# Altium footprint library PcbLib.PcbLib: 38 footprints (part 1 of 3)
Each footprint in its own frame and in the unit in brackets; x right, y up, seen from the top. Pads: shape width x height; smd on the part's side, far side on the other; paste and mask are expansions set on the pad; w line width, h text height; cw(c..) or ccw(c..) is an arc to the next point about the centre after c.
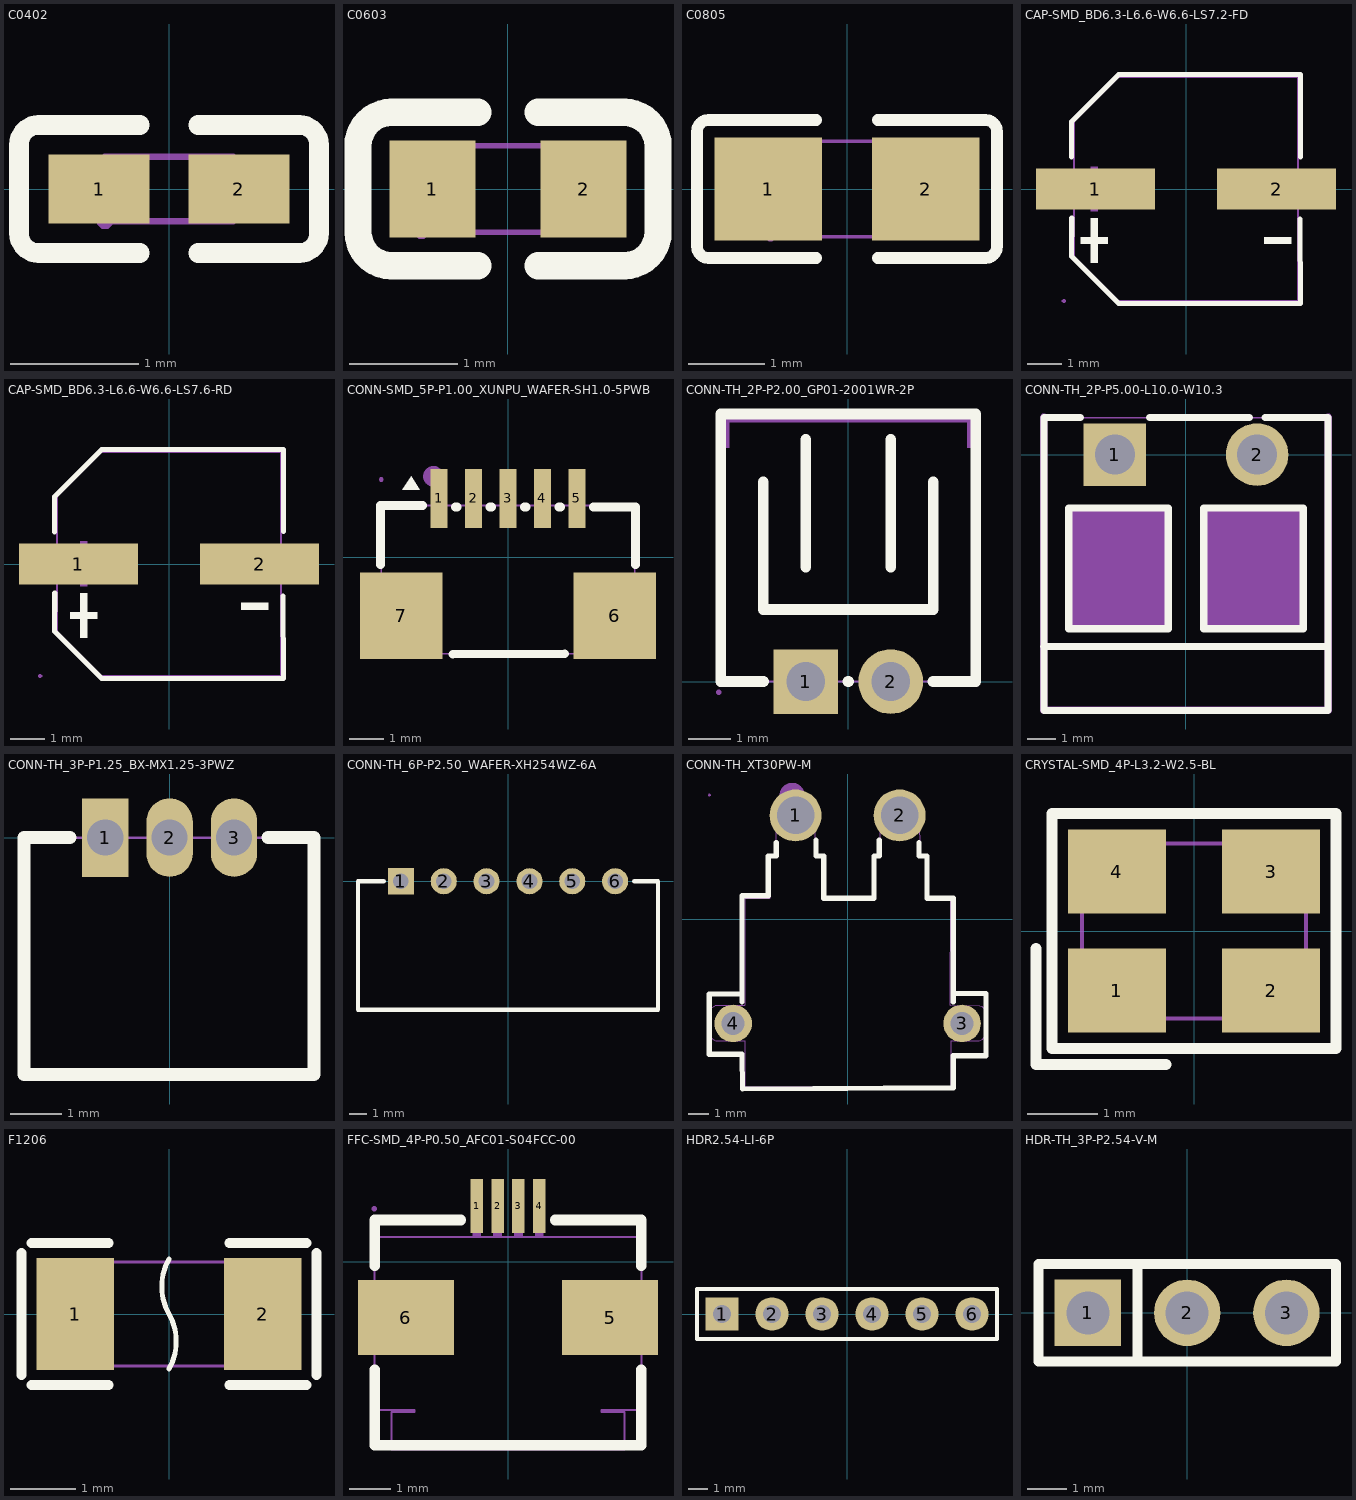
[diagram p0: the footprints below, top view; thin cyan lines are the x and y axes]

## C0402 [mm]
pads (2):
  rect 0.79x0.54 smd paste-100 mask+0.051: 1(-0.545,0) 2(0.545,0)
Top Overlay:
  lines w0.152: -0.226,-0.499 -1.016,-0.499 cw(c-1.016,-0.346) -1.169,-0.346 -1.169,0.346 cw(c-1.016,0.346) -1.016,0.499 -0.226,0.499 ; 0.226,-0.499 1.016,-0.499 ccw(c1.016,-0.346) 1.169,-0.346 1.169,0.346 ccw(c1.016,0.346) 1.016,0.499 0.226,0.499
Top Paste:
  region: -0.18,0.225 -0.18,-0.225 -0.25,-0.275 -0.73,-0.275 -0.78,-0.225 -0.78,0.225 -0.73,0.275 -0.25,0.275
  region: 0.78,0.225 0.78,-0.225 0.73,-0.275 0.25,-0.275 0.18,-0.225 0.18,0.225 0.25,0.275 0.73,0.275
Mechanical 15:
  region: -0.44,-0.25 -0.44,-0.225 -0.475,-0.19 -0.525,-0.19 -0.56,-0.225 -0.56,-0.25 -0.56,-0.275 -0.525,-0.31 -0.475,-0.31 -0.44,-0.275 -0.44,-0.25
  region: -0.5,-0.25 -0.5,0.25 -0.25,0.25 -0.25,-0.25
  region: 0.5,-0.25 0.5,0.25 0.25,0.25 0.25,-0.25
  lines w0.051: -0.5,-0.25 -0.5,0.25 0.5,0.25 0.5,-0.25 -0.5,-0.25

## C0603 [mm]
pads (2):
  rect 0.8x0.9 smd: 1(-0.7,0) 2(0.7,0)
Top Overlay:
  lines w0.254: -1.08,-0.71 -0.28,-0.71 ; -1.08,0.71 -0.28,0.71 ; -1.08,-0.71 cw(c-1.08,-0.4) -1.39,-0.4 -1.39,0.4 cw(c-1.08,0.4) -1.08,0.71 ; 0.28,-0.71 1.08,-0.71 ccw(c1.08,-0.4) 1.39,-0.4 1.39,0.4 ccw(c1.08,0.4) 1.08,0.71 0.28,0.71
Mechanical 15:
  region: 0.8,-0.4 0.8,0.4 0.5,0.4 0.5,-0.4
  region: -0.8,-0.4 -0.8,0.4 -0.5,0.4 -0.5,-0.4
  region: -0.74,-0.4 -0.74,-0.375 -0.775,-0.34 -0.825,-0.34 -0.86,-0.375 -0.86,-0.4 -0.86,-0.425 -0.825,-0.46 -0.775,-0.46 -0.74,-0.425 -0.74,-0.4
  lines w0.051: -0.8,-0.4 0.8,-0.4 0.8,0.4 -0.8,0.4 -0.8,-0.4

## C0805 [mm]
pads (2):
  rect 1.41x1.35 smd paste-100 mask+0.051: 1(-1.03,0) 2(1.03,0)
Top Overlay:
  lines w0.152: -0.401,-0.904 -1.811,-0.904 cw(c-1.811,-0.751) -1.964,-0.751 -1.964,0.751 cw(c-1.811,0.751) -1.811,0.904 -0.401,0.904 ; 0.401,-0.904 1.811,-0.904 ccw(c1.811,-0.751) 1.964,-0.751 1.964,0.751 ccw(c1.811,0.751) 1.811,0.904 0.401,0.904
Top Paste:
  region: -1.675,-0.62 -1.675,0.66 -1.625,0.71 -0.475,0.71 -0.425,0.66 -0.42,0.25 -0.87,0.25 -0.87,-0.2 -0.43,-0.2 -0.425,-0.62 -0.475,-0.67 -1.625,-0.67
  region: 0.475,-0.62 0.475,-0.2 0.92,-0.2 0.92,0.25 0.48,0.25 0.475,0.66 0.525,0.71 1.675,0.71 1.725,0.66 1.725,-0.62 1.675,-0.67 0.525,-0.67
Mechanical 15:
  region: -1.06,-0.625 -1.059,-0.649 -1.024,-0.683 -0.976,-0.683 -0.941,-0.649 -0.94,-0.625 -0.941,-0.601 -0.976,-0.567 -1.024,-0.567 -1.059,-0.601 -1.06,-0.625
  region: -1,-0.625 -1,0.625 -0.5,0.625 -0.5,-0.625
  region: 1,0.625 1,-0.625 0.5,-0.625 0.5,0.625
  lines w0.051: -1,-0.625 -1,0.625 1,0.625 1,-0.625 -1,-0.625

## CAP-SMD_BD6.3-L6.6-W6.6-LS7.2-FD [mm]
pads (2):
  rect 3.5x1.2 smd: 1(-2.67,0) 2(2.67,0)
Top Overlay:
  region: -2.805,-0.858 -2.805,-2.178 -2.607,-2.178 -2.607,-0.858
  region: -3.102,-1.419 -3.102,-1.617 -2.31,-1.617 -2.31,-1.419
  region: 3.102,-1.419 3.102,-1.617 2.31,-1.617 2.31,-1.419
  lines w0.152: -3.376,0.94 -3.376,1.98 -1.98,3.376 3.376,3.376 3.37,0.94 ; -3.364,-0.857 -3.376,-1.981 -1.981,-3.376 3.376,-3.376 3.357,-0.889
Mechanical 6:
  region: -2.805,0.66 -2.805,-0.66 -2.607,-0.66 -2.607,0.66
  region: -3.102,0.099 -3.102,-0.099 -2.31,-0.099 -2.31,0.099
  region: 3.102,0.099 3.102,-0.099 2.31,-0.099 2.31,0.099
Mechanical 15:
  region: -3.54,-3.3 -3.541,-3.276 -3.576,-3.242 -3.624,-3.242 -3.659,-3.276 -3.66,-3.3 -3.659,-3.324 -3.624,-3.358 -3.576,-3.358 -3.541,-3.324 -3.54,-3.3
  region: 0.95,0.35 3.6,0.35 3.6,-0.35 0.95,-0.35
  region: -3.6,0.35 -0.95,0.35 -0.95,-0.35 -3.6,-0.35
  lines w0.051: -3.3,-1.98 -1.98,-3.3 3.3,-3.3 3.3,3.3 -1.98,3.3 -3.3,1.98 -3.3,-1.98

## CAP-SMD_BD6.3-L6.6-W6.6-LS7.6-RD [mm]
pads (2):
  rect 3.5x1.2 smd: 1(-2.67,0) 2(2.67,0)
Top Overlay:
  region: 2.921,-1.143 2.921,-1.341 2.129,-1.341 2.129,-1.143
  region: -2.911,-1.419 -2.911,-1.617 -2.119,-1.617 -2.119,-1.419
  region: -2.614,-0.858 -2.614,-2.178 -2.416,-2.178 -2.416,-0.858
  lines w0.152: -3.376,0.94 -3.376,1.98 -1.98,3.376 3.376,3.376 3.37,0.965 ; -3.364,-0.858 -3.376,-1.981 -1.981,-3.376 3.376,-3.376 3.357,-0.94
Mechanical 6:
  region: 2.848,0.099 2.848,-0.099 2.056,-0.099 2.056,0.099
  region: -1.88,0.099 -3.2,0.099 -3.2,-0.099 -1.88,-0.099
  region: -2.41,-0.654 -2.41,0.666 -2.608,0.666 -2.608,-0.654
Mechanical 15:
  region: -3.74,-3.3 -3.741,-3.276 -3.776,-3.242 -3.824,-3.242 -3.859,-3.276 -3.86,-3.3 -3.859,-3.324 -3.824,-3.358 -3.776,-3.358 -3.741,-3.324 -3.74,-3.3
  region: -3.8,0.325 -1.4,0.325 -1.4,-0.325 -3.8,-0.325
  region: 1.4,0.325 3.8,0.325 3.8,-0.325 1.4,-0.325
  lines w0.051: -3.3,-1.98 -1.98,-3.3 3.3,-3.3 3.3,3.3 -1.98,3.3 -3.3,1.98 -3.3,-1.98

## CONN-SMD_5P-P1.00_XUNPU_WAFER-SH1.0-5PWB [mm]
pads (7):
  rect 0.5x1.7 smd paste+0 mask+0.05: 1(-2,1.7) 2(-1,1.7) 3(0,1.7) 4(1,1.7) 5(2,1.7)
  rect 2.388x2.5 smd paste+0 mask+0.05: 6(3.1,-1.7) 7(-3.1,-1.7)
Top Overlay:
  region: -2.81,2.34 -3.064,1.959 -2.556,1.959
  lines w0.254: -3.7,-0.219 -3.7,1.5 -2.48,1.5 ; -1.6,-2.819 1.644,-2.8 ; -1.519,1.451 -1.481,1.451 ; -0.519,1.451 -0.481,1.451 ; 0.481,1.451 0.519,1.451 ; 1.481,1.451 1.519,1.451 ; 2.481,1.451 3.7,1.451 3.7,-0.219
Mechanical 6:
  circle w0.3: c-2.159,2.34 r0.15
Mechanical 15:
  region: 3,-1.15 3.2,-1.15 3.2,-2.65 3,-2.65
  region: -3.2,-1.15 -3,-1.15 -3,-2.65 -3.2,-2.65
  region: 1.9,2.25 2.1,2.25 2.1,1.25 1.9,1.25
  region: 0.9,2.25 1.1,2.25 1.1,1.25 0.9,1.25
  region: -2.1,2.25 -1.9,2.25 -1.9,1.25 -2.1,1.25
  region: -1.1,2.25 -0.9,2.25 -0.9,1.25 -1.1,1.25
  region: -0.1,2.25 0.1,2.25 0.1,1.25 -0.1,1.25
  region: -3.615,2.25 -3.615,2.275 -3.65,2.31 -3.7,2.31 -3.735,2.275 -3.735,2.25 -3.735,2.225 -3.7,2.19 -3.65,2.19 -3.615,2.225 -3.615,2.25
  lines w0.051: -3.675,-2.8 3.675,-2.8 3.675,1.5 -3.675,1.5 -3.675,-2.8

## CONN-TH_2P-P2.00_GP01-2001WR-2P [mil]
pads (2):
  rect 60x60 hole 36: 1(-39.37,0)
  round 60 hole 36: 2(39.37,0)
Top Overlay:
  lines w10: -78.77,185.04 -78.77,66.93 78.71,66.93 78.71,185.04 ; -78.47,0 -118.11,0 -118.11,11.81 -118.14,11.81 -118.14,248.03 118.08,248.03 118.08,11.81 118.08,0 78.47,0 ; -39.4,106.3 -39.4,224.41 ; -0.27,0 0.27,0 ; 39.34,106.3 39.34,224.41
Mechanical 6:
  region: -118.11,216.54 -118.11,248.03 118.11,248.03 118.11,216.54 110.24,216.54 110.24,240.16 -110.24,240.16 -110.24,216.54
Mechanical 15:
  region: 29.53,9.84 49.21,9.84 49.21,-9.84 29.53,-9.84
  region: -49.21,9.84 -29.53,9.84 -29.53,-9.84 -49.21,-9.84
  region: -117.72,-9.84 -117.72,-8.86 -119.1,-7.48 -121.06,-7.48 -122.44,-8.86 -122.44,-9.84 -122.44,-10.82 -121.06,-12.2 -119.1,-12.2 -117.72,-10.82 -117.72,-9.84
  lines w2: -120.08,0 -120.08,248.03 120.08,248.03 120.08,0 -120.08,0

## CONN-TH_2P-P5.00-L10.0-W10.3 [mm]
pads (2):
  rect 2.2x2.2 hole 1.4 paste+0 mask+0.05: 1(-2.5,0)
  round 2.2 hole 1.4 paste+0 mask+0.05: 2(2.5,0)
Top Overlay:
  lines w0.254: -5,-6.75 5,-6.75 ; -4.999,1.258 -4.999,-9 5,-9 5,1.3 2.777,1.3 ; -4.999,1.3 -3.713,1.3 ; -1.287,1.3 2.223,1.3 ; -4.125,-6.125 -0.625,-6.125 -0.625,-1.875 -4.125,-1.875 -4.125,-6.125 ; 0.625,-6.125 4.125,-6.125 4.125,-1.875 0.625,-1.875 0.625,-6.125
Mechanical 6:
  region: -4.872,1.3 -4.872,-8.872 4.874,-8.872 4.874,1.3 4.874,1.353 4.948,1.427 5.053,1.427 5.128,1.353 5.128,1.3 5.128,-8.999 5.128,-9.024 5.108,-9.071 5.073,-9.107 5.026,-9.126 5.001,-9.126 -4.999,-9.126 -5.025,-9.126 -5.071,-9.107 -5.107,-9.071 -5.126,-9.024 -5.126,-8.999 -5.126,1.3 -5.126,1.353 -5.052,1.427 -4.947,1.427 -4.872,1.353 -4.872,1.3
  region: -4.1,-1.9 -4.1,-6.15 -0.65,-6.15 -0.65,-1.9
  region: 0.625,-1.9 0.625,-6.15 4.075,-6.15 4.075,-1.9
Mechanical 15:
  region: -4.94,-9 -4.94,-8.976 -4.975,-8.941 -5.024,-8.941 -5.059,-8.976 -5.06,-9 -5.059,-9.024 -5.024,-9.059 -4.975,-9.059 -4.94,-9.024 -4.94,-9
  region: 2,-0.25 2,0.25 3,0.25 3,-0.25
  region: -3,0.25 -2,0.25 -2,-0.25 -3,-0.25
  lines w0.051: -5,-9 5,-9 5,1.3 -5,1.3 -5,-9

## CONN-TH_3P-P1.25_BX-MX1.25-3PWZ [mm]
pads (3):
  rect 0.9x1.524 hole 0.7: 1(-1.25,0)
  oval 0.9x1.524 hole 0.7: 2(0,0) 3(1.25,0)
Top Overlay:
  lines w0.254: -1.935,0 -2.825,0 -2.825,-4.6 2.8,-4.6 2.8,0 1.906,0
Mechanical 6:
  region: 1.906,0.1 2.8,0.1 2.82,0.1 2.856,0.085 2.885,0.057 2.9,0.02 2.9,0 2.9,-4.6 2.9,-4.62 2.885,-4.657 2.856,-4.685 2.82,-4.7 2.8,-4.7 -2.825,-4.7 -2.845,-4.7 -2.882,-4.685 -2.91,-4.657 -2.925,-4.62 -2.925,-4.6 -2.925,0 -2.925,0.02 -2.91,0.057 -2.882,0.085 -2.845,0.1 -2.825,0.1 -1.935,0.1 -1.894,0.1 -1.835,0.041 -1.835,-0.041 -1.894,-0.1 -1.935,-0.1 -2.725,-0.1 -2.725,-4.5 2.7,-4.5 2.7,-0.1 1.906,-0.1 1.865,-0.1 1.806,-0.041 1.806,0.041 1.865,0.1 1.906,0.1
Mechanical 15:
  region: -1.4,0.175 -1.1,0.175 -1.1,-0.175 -1.4,-0.175
  region: -0.15,0.175 0.15,0.175 0.15,-0.175 -0.15,-0.175
  region: 1.1,0.175 1.4,0.175 1.4,-0.175 1.1,-0.175
  region: -2.765,-4.6 -2.765,-4.575 -2.8,-4.54 -2.85,-4.54 -2.885,-4.575 -2.885,-4.6 -2.885,-4.625 -2.85,-4.66 -2.8,-4.66 -2.765,-4.625 -2.765,-4.6
  lines w0.051: -2.825,-4.6 2.825,-4.6 2.825,0 -2.825,0 -2.825,-4.6

## CONN-TH_6P-P2.50_WAFER-XH254WZ-6A [mil]
pads (6):
  rect 60x60 hole 36: 1(-246.06,0)
  round 60 hole 36: 2(-147.64,0) 3(-49.22,0) 4(49.21,0) 5(147.63,0) 6(246.06,0)
Top Overlay:
  lines w10: -285.17,0 -344.49,0 -344.49,-295.27 344.49,-295.27 344.49,0 290,0

## CONN-TH_XT30PW-M [mm]
pads (4):
  round 2.5 hole 1.8: 1(-2.5,5) 2(2.5,5)
  round 1.8 hole 1.1: 3(5.5,-5) 4(-5.5,-5)
Top Overlay:
  lines w0.254: -5.08,-3.95 -5.08,0.047 -5.08,1.143 -3.81,1.143 -3.81,3.048 -3.429,3.048 -3.429,3.683 ; -5.08,-3.585 -6.65,-3.585 -6.65,-6.48 -5.08,-6.48 -5.05,-8.15 5.08,-8.091 5.08,-6.549 ; -1.524,3.81 -1.524,3.048 -1.143,3.048 -1.143,1.016 1.27,1.016 1.27,3.048 1.524,3.048 1.524,3.81 ; 3.429,3.683 3.429,3.048 3.81,3.048 3.81,1.016 5.08,1.016 5.08,0.047 5.08,-3.95 ; 5.08,-6.55 6.65,-6.55 6.65,-3.559 5.08,-3.559
Mechanical 6:
  circle w0.6: c-2.667,5.969 r0.3
Mechanical 15:
  drawing of 94 lines, arcs and shapes, not listed

## CRYSTAL-SMD_4P-L3.2-W2.5-BL [mm]
pads (4):
  rect 1.4x1.2 smd paste+0 mask+0.051: 1(-1.1,-0.85) 2(1.1,-0.85) 3(1.1,0.85) 4(-1.1,0.85)
Top Overlay:
  lines w0.152: -2.257,-0.25 -2.257,-1.907 -0.4,-1.907 ; -2.029,-1.678 2.029,-1.678 2.029,1.679 -2.029,1.679 -2.029,-1.678
Mechanical 6:
  circle w0.36: c-1.143,-0.889 r0.18
Mechanical 15:
  region: -1.5,-0.35 -0.6,-0.35 -0.6,-1.15 -1.5,-1.15
  region: 0.6,-0.35 1.5,-0.35 1.5,-1.15 0.6,-1.15
  region: 0.6,1.15 1.5,1.15 1.5,0.35 0.6,0.35
  region: -1.5,1.15 -0.6,1.15 -0.6,0.35 -1.5,0.35
  region: -1.6,-1.31 -1.576,-1.309 -1.542,-1.274 -1.542,-1.226 -1.576,-1.191 -1.6,-1.19 -1.624,-1.191 -1.657,-1.226 -1.658,-1.274 -1.624,-1.309 -1.6,-1.31
  lines w0.051: -1.6,-1.25 1.6,-1.25 1.6,1.25 -1.6,1.25 -1.6,-1.25

## F1206 [mil]
pads (2):
  rect 46.9x68 smd paste+0 mask+2: 1(-56.9,0) 2(56.9,0)
Top Overlay:
  lines w3: 0,-33.27 ccw(c-28.81,-16.63) 0,0 cw(c28.81,16.63) 0,33.27
  lines w6: -89.3,-37 -89.3,37 ; -83.3,-43 -36.5,-43 ; -83.3,43 -36.5,43 ; 36.5,-43 83.3,-43 ; 36.5,43 83.3,43 ; 89.3,-37 89.3,37
Mechanical 15:
  region: -65.4,-31.5 -65.4,-32.49 -63.99,-33.9 -62.01,-33.9 -60.6,-32.49 -60.6,-31.5 -60.6,-30.51 -62.01,-29.1 -63.99,-29.1 -65.4,-30.51 -65.4,-31.5
  region: -63,-31.5 -43.3,-31.5 -43.3,31.5 -63,31.5
  region: 43.3,-31.5 63,-31.5 63,31.5 43.3,31.5
  lines w2: -63,-31.5 63,-31.5 63,31.5 -63,31.5 -63,-31.5

## FFC-SMD_4P-P0.50_AFC01-S04FCC-00 [mm]
pads (6):
  rect 0.3x1.3 smd paste+0 mask+0.05: 1(-0.75,1.34) 2(-0.25,1.34) 3(0.25,1.34) 4(0.75,1.34)
  rect 2.3x1.8 smd: 5(2.45,-1.34) 6(-2.45,-1.34)
Top Overlay:
  lines w0.254: -3.2,-2.591 -3.2,-4.4 3.2,-4.4 3.2,-2.591 ; -3.2,-0.102 -3.2,1 -1.131,1 ; 1.131,1 3.2,1 3.2,-0.102
Mechanical 15:
  region: -3.15,1.27 -3.15,1.295 -3.185,1.33 -3.235,1.33 -3.27,1.295 -3.27,1.27 -3.27,1.245 -3.235,1.21 -3.185,1.21 -3.15,1.245 -3.15,1.27
  region: -0.65,1.27 -0.85,1.27 -0.85,0.58 -0.65,0.58
  region: -0.15,1.27 -0.35,1.27 -0.35,0.58 -0.15,0.58
  region: 0.35,1.27 0.15,1.27 0.15,0.58 0.35,0.58
  region: 0.85,1.27 0.65,1.27 0.65,0.58 0.85,0.58
  region: -1.99,-1.71 -3.2,-1.71 -3.21,-0.8 -1.99,-0.8
  region: 1.99,-0.97 3.2,-0.97 3.21,-1.88 1.99,-1.88
  lines w0.051: -3.2,-3.56 -2.25,-3.56 -2.25,-3.61 -2.8,-3.61 -2.8,-4.5 2.8,-4.5 2.8,-3.61 2.25,-3.61 2.25,-3.56 2.8,-3.56 3.2,-3.56 3.2,0.59 -3.2,0.59 -3.2,0.58 -3.2,-3.56

## HDR2.54-LI-6P [mm]
pads (6):
  rect 1.7x1.7 hole 0.9 paste+0 mask+0.102: 1(-6.35,0)
  round 1.7 hole 0.9 paste+0 mask+0.102: 2(-3.81,0) 3(-1.27,0) 4(1.27,0) 5(3.81,0) 6(6.35,0)
Top Overlay:
  lines w0.2: -7.62,-1.27 7.62,-1.27 7.62,1.27 -7.62,1.27 -7.62,-1.27

## HDR-TH_3P-P2.54-V-M [mm]
pads (3):
  rect 1.7x1.7 hole 1.1: 1(-2.54,0)
  round 1.7 hole 1.1: 2(0,0) 3(2.54,0)
Top Overlay:
  lines w0.254: -1.27,-1.25 -1.27,1.25 ; 3.809,-1.25 3.809,1.25 -3.81,1.25 -3.81,-1.25 3.81,-1.25
Mechanical 15:
  region: -3.75,-1.25 -3.75,-1.225 -3.785,-1.19 -3.835,-1.19 -3.87,-1.225 -3.87,-1.25 -3.87,-1.275 -3.835,-1.31 -3.785,-1.31 -3.75,-1.275 -3.75,-1.25
  region: 2.22,0.32 2.86,0.32 2.86,-0.32 2.22,-0.32
  region: -0.32,0.32 0.32,0.32 0.32,-0.32 -0.32,-0.32
  region: -2.86,0.32 -2.22,0.32 -2.22,-0.32 -2.86,-0.32
  lines w0.051: -3.81,-1.25 -3.81,1.25 3.81,1.25 3.81,-1.25 -3.81,-1.25